# EAGLE library part FUEL_GAUGE (library Cerebro-library)
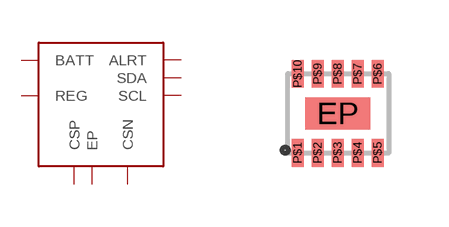
[diagram p5: symbol with the pads of DFN-10; footprint DFN-10]

Designator prefix -

## FUEL_GAUGE  [DFN-10]
EP  EP
P$3  SCL
P$4  SDA
P$5  CSN
P$6  CSP
P$7  REG
P$8  ALRT
P$10  BATT

## Footprint DFN-10 (pad centres in mm)
Now follows http://pdfserv.maximintegrated.com/land_patterns/90-0065.PDF Pasted was reduced by 40% width on the center ground pad, and some amount on the other 8. Stop mask extends 135 µm wider than the pad to hit dead center of what IPC-7351 recommends.
smd 1.63 x 0.8: EP 0,0
smd 0.3 x 0.7: P$1 -1,-0.99; P$2 -0.5,-0.99; P$3 0,-0.99; P$4 0.5,-0.99; P$5 1,-0.99; P$6 1,0.99; P$7 0.5,0.99; P$8 0,0.99; P$9 -0.5,0.99; P$10 -1,0.99